# Altium schematic symbol library LM7805.SchLib: 1 symbol
Pins are listed as number, name and electrical type; pins without a type are passive.

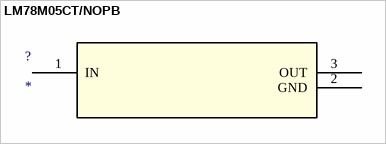
[diagram p0: symbol LM78M05CT/NOPB]

## LM78M05CT/NOPB
designator ?
Imported; Manufacturer_Part_Number: lm78m05ct; Vendor: National Semiconductor; C: Copyright (C) 2015 Accelerated Designs. All rights reserved; Copyright: Copyright (C) 2015 Accelerated Designs. All rights reserved; RefDes: RefDes; Type: DEV; Value: Value
footprint T03B
pins: 1 IN (power), 2 GND (power), 3 OUT (power)